# Altium schematic symbol library Circuit Protection.SchLib: 2 symbols
Pins are listed as number, name and electrical type; pins without a type are passive.

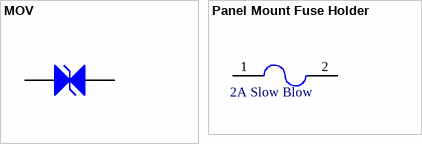
[diagram p0: symbols MOV to Panel Mount Fuse Holder]

## MOV
designator V?
Metal Oxide Varistor; Value: 150 V; ComponentLink1Description: Manufacturer Link; ComponentLink2Description: Datasheet
footprint Varistor_7.62and10mm (MOV Thru-Hole, Radial; Body 6.8 x 3 mm (WxT) Pin Spacing 7.62 mm (typ))
pins: 1 A, 2 K

## Panel Mount Fuse Holder
designator F?, comment Panel Mount Fuze  value 2A Slow Blow
Panel Mount Fuze Holder; ComponentLink1Description: Manufacturer Link
footprint Off Board Connector (2 Position Off Board Connector)
pins: 1, 2